# Altium schematic symbol library REG103U.SchLib: 1 symbol
Pins are listed as number, name and electrical type; pins without a type are passive.

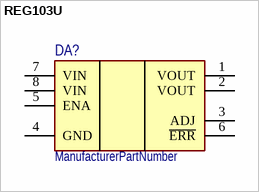
[diagram p0: symbol REG103U]

## REG103U
designator DA?  (value not drawn)
ManufacturerPartNumber: ManufacturerPartNumber
pins: 1 VOUT, 2 VOUT, 3 ADJ, 4 GND, 5 ENA, 6 ~{ERR}, 7 VIN, 8 VIN